# Altium footprint library QFN36EP.PcbLib: 1 footprints
Each footprint in its own frame and in the unit in brackets; x right, y up, seen from the top. Pads: shape width x height; smd on the part's side, far side on the other; paste and mask are expansions set on the pad; w line width, h text height; cw(c..) or ccw(c..) is an arc to the next point about the centre after c.
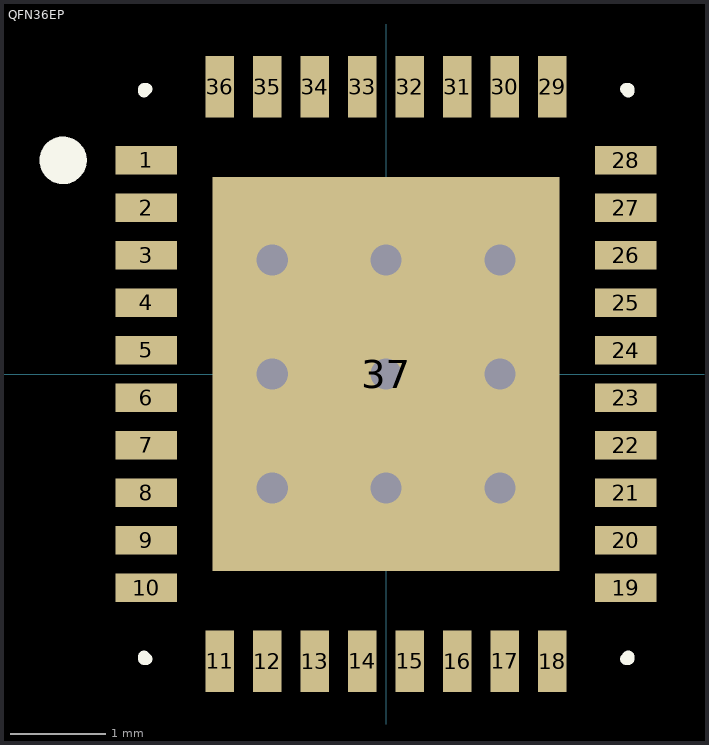
[diagram p0: the footprint, top view; thin cyan lines are the x and y axes]

## QFN36EP [mm]
height 0.75
pads (37):
  rect 0.65x0.3 smd mask+0.05: 1(-2.525,2.25) 2(-2.525,1.75) 3(-2.525,1.25) 4(-2.525,0.75) 5(-2.525,0.25) 6(-2.525,-0.25) 7(-2.525,-0.75) 8(-2.525,-1.25) 9(-2.525,-1.75) 10(-2.525,-2.25) 19(2.525,-2.25) 20(2.525,-1.75) 21(2.525,-1.25) 22(2.525,-0.75) 23(2.525,-0.25) 24(2.525,0.25) 25(2.525,0.75) 26(2.525,1.25) 27(2.525,1.75) 28(2.525,2.25)
  rect 0.3x0.65 smd mask+0.05: 11(-1.75,-3.025) 12(-1.25,-3.025) 13(-0.75,-3.025) 14(-0.25,-3.025) 15(0.25,-3.025) 16(0.75,-3.025) 17(1.25,-3.025) 18(1.75,-3.025) 29(1.75,3.025) 30(1.25,3.025) 31(0.75,3.025) 32(0.25,3.025) 33(-0.25,3.025) 34(-0.75,3.025) 35(-1.25,3.025) 36(-1.75,3.025)
  rect 3.65x4.15 smd: 37(0,0)
via -1.2,-1.2 diameter 0.66 hole 0.33
via -1.2,0 diameter 0.66 hole 0.33
via -1.2,1.2 diameter 0.66 hole 0.33
via 0,-1.2 diameter 0.66 hole 0.33
via 0,0 diameter 0.66 hole 0.33
via 0,1.2 diameter 0.66 hole 0.33
via 1.2,-1.2 diameter 0.66 hole 0.33
via 1.2,0 diameter 0.66 hole 0.33
via 1.2,1.2 diameter 0.66 hole 0.33
Top Overlay:
  circle w0.25: c-3.4,2.25 r0.125
  lines w0.127: -2.55,-2.975 -2.55,-3 -2.525,-3 ; -2.55,2.975 -2.55,3 -2.525,3 ; 2.525,-3 2.55,-3 2.55,-2.975 ; 2.525,3 2.55,3 2.55,2.975
Mechanical 15:
  lines w0.1: -0.5,0 0.5,0 ; 0,-0.5 0,0.5
3D body: height 0.75, standoff 0, extent -2.54,-2.999 2.54,2.999